# Altium schematic symbol library GL3532.SchLib: 9 symbols
Pins are listed as number, name and electrical type; pins without a type are passive.

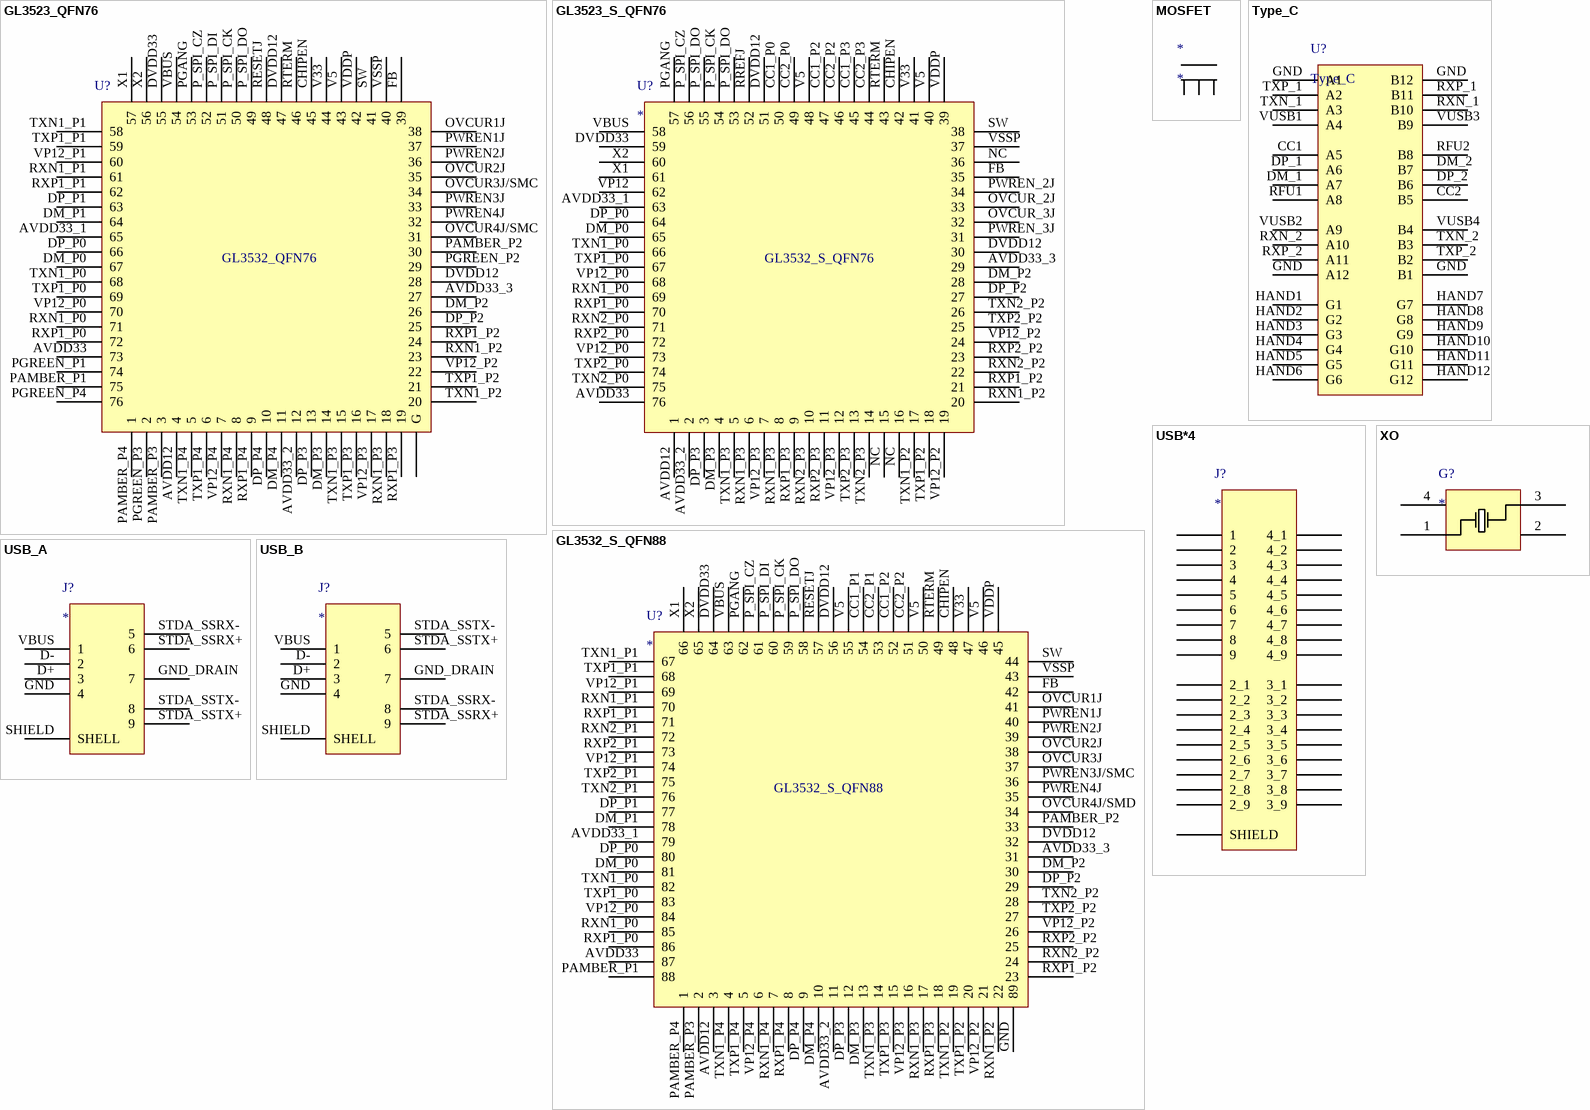
[diagram p0: symbols GL3523_QFN76 to XO]

## GL3523_QFN76
designator U?
USB Type-C™ Integrated USB 3.1 Gen 1 Hub Controller
pins: ?1 G, AVDD12 4, AVDD33 73, AVDD33_1 65, AVDD33_2 12, AVDD33_3 27, CHIPEN 45, DM_P0 67, DM_P1 64, DM_P2 26, DM_P3 14, DM_P4 11, DP_P0 66, DP_P1 63, DP_P2 25, DP_P3 13, DP_P4 10, DVDD12 28, DVDD12 47, DVDD33 55, FB 39, OVCUR1J 38, OVCUR2J 35, OVCUR3J/SMC 34, OVCUR4J/SMC 31, P_SPI_CK 50, P_SPI_CZ 52, P_SPI_DI 51, P_SPI_DO 49, PAMBER_P1 75, PAMBER_P2 30, PAMBER_P3 3, PAMBER_P4 1, PGANG 53, PGREEN_P1 74, PGREEN_P2 29, PGREEN_P3 2, PGREEN_P4 76, PWREN1J 37, PWREN2J 36, PWREN3J 33, PWREN4J 32, RESETJ 48, RTERM 46, RXN1_P0 71, RXN1_P1 61, RXN1_P2 23, RXN1_P3 18, RXN1_P4 8, RXP1_P0 72, RXP1_P1 62, RXP1_P2 24, RXP1_P3 19, RXP1_P4 9, SW 41, TXN1_P0 68, TXN1_P1 58, TXN1_P2 20, TXN1_P3 15, TXN1_P4 5, TXP1_P0 69, TXP1_P1 59, TXP1_P2 21, TXP1_P3 16, TXP1_P4 6, V5 43, V33 44, VBUS 54, VDDP 42, VP12_P0 70, VP12_P1 60, VP12_P2 22, VP12_P3 17, VP12_P4 7, VSSP 40, X1 57, X2 56
text: GL3532_QFN76

## GL3523_S_QFN76
designator U?
footprint GL3523_QFN76 (QFN, 76-Leads, Body 9.00x9.00mm, Pitch 0.40mm, Thermal Pad 5.75x5.75mm, IPC Medium Density)
pins: AVDD12 1, AVDD33 76, AVDD33_1 63, AVDD33_2 2, AVDD33_3 29, CC1_P0 50, CC1_P2 47, CC1_P3 45, CC2_P0 49, CC2_P2 46, CC2_P3 44, CHIPEN 42, DM_P0 65, DM_P2 28, DM_P3 4, DP_P0 64, DP_P2 27, DP_P3 3, DVDD12 30, DVDD12 51, DVDD33 59, FB 35, NC 15, NC 16, NC 36, OVCUR_2J 33, OVCUR_3J 32, P_SPI_CK 54, P_SPI_CZ 56, P_SPI_DO 53, P_SPI_DO 55, PGANG 57, PWREN_2J 34, PWREN_3J 31, RREFJ 52, RTERM 43, RXN1_P0 69, RXN1_P2 20, RXN1_P3 6, RXN1_P3 8, RXN2_P0 71, RXN2_P2 22, RXN2_P3 10, RXP1_P0 70, RXP1_P2 21, RXP1_P3 9, RXP2_P0 72, RXP2_P2 23, RXP2_P3 11, SW 38, TXN1_P0 66, TXN1_P2 17, TXN1_P3 5, TXN2_P0 75, TXN2_P2 26, TXN2_P3 14, TXP1_P0 67, TXP1_P2 18, TXP2_P0 74, TXP2_P2 25, TXP2_P3 13, V5 40, V5 48, V33 41, VBUS 58, VDDP 39, VP12 62, VP12_P0 68, VP12_P0 73, VP12_P2 19, VP12_P2 24, VP12_P3 7, VP12_P3 12, VSSP 37, X1 61, X2 60
text: GL3532_S_QFN76

## GL3532_S_QFN88
designator U?
GL3532_S_QFN88
footprint GL3532_S_QFN88 (QFN, 88-Leads, Body 10.00x10.00mm, Pitch 0.40mm, Thermal Pad 5.60x5.60mm, IPC Medium Density)
pins: AVDD12 3, AVDD33 87, AVDD33_1 79, AVDD33_2 11, AVDD33_3 31, CC1_P1 54, CC1_P2 52, CC2_P1 53, CC2_P2 51, CHIPEN 48, DM_P0 81, DM_P1 78, DM_P2 30, DM_P3 13, DM_P4 10, DP_P0 80, DP_P1 77, DP_P2 29, DP_P3 12, DP_P4 9, DVDD12 32, DVDD12 56, DVDD33 64, FB 42, GND 89, OVCUR1J 41, OVCUR2J 38, OVCUR3J 37, OVCUR4J/SMD 34, P_SPI_CK 59, P_SPI_CZ 61, P_SPI_DI 60, P_SPI_DO 58, PAMBER_P1 88, PAMBER_P2 33, PAMBER_P3 2, PAMBER_P4 1, PGANG 62, PWREN1J 40, PWREN2J 39, PWREN3J/SMC 36, PWREN4J 35, RESETJ 57, RTERM 49, RXN1_P0 85, RXN1_P1 70, RXN1_P2 22, RXN1_P3 17, RXN1_P4 7, RXN2_P1 72, RXN2_P2 24, RXP1_P0 86, RXP1_P1 71, RXP1_P2 23, RXP1_P3 18, RXP1_P4 8, RXP2_P1 73, RXP2_P2 25, SW 44, TXN1_P0 82, TXN1_P1 67, TXN1_P2 19, TXN1_P3 14, TXN1_P4 4, TXN2_P1 76, TXN2_P2 28, TXP1_P0 83, TXP1_P1 68, TXP1_P2 20, TXP1_P3 15, TXP1_P4 5, TXP2_P1 75, TXP2_P2 27, V5 46, V5 50, V5 55, V33 47, VBUS 63, VDDP 45, VP12_P0 84, VP12_P1 69, VP12_P1 74, VP12_P2 21, VP12_P2 26, VP12_P3 16, VP12_P4 6, VSSP 43, X1 66, X2 65

## MOSFET
designator *

## Type_C
designator U?
pins: CC1 A5, CC2 B5, DM_1 A7, DM_2 B7, DP_1 A6, DP_2 B6, GND A1, GND A12, GND B12, GND B1, HAND1 G1, HAND2 G2, HAND3 G3, HAND4 G4, HAND5 G5, HAND6 G6, HAND7 G7, HAND8 G8, HAND9 G9, HAND10 G10, HAND11 G11, HAND12 G12, RFU1 A8, RFU2 B8, RXN_1 B10, RXN_2 A10, RXP_1 B11, RXP_2 A11, TXN_1 A3, TXN_2 B3, TXP_1 A2, TXP_2 B2, VUSB1 A4, VUSB2 A9, VUSB3 B9, VUSB4 B4

## USB*4
designator J?
pins: ?1 1, ?2 2, ?3 3, ?4 4, ?5 5, ?6 6, ?7 7, ?8 8, ?9 9, ?10 2_1, ?11 2_2, ?12 2_3, ?13 2_4, ?14 2_5, ?15 2_6, ?16 2_7, ?17 2_8, ?18 2_9, ?19 4_1, ?20 4_2, ?21 4_3, ?22 4_4, ?23 4_5, ?24 4_6, ?25 4_7, ?26 4_8, ?27 4_9, ?28 3_1, ?29 3_2, ?30 3_3, ?31 3_4, ?32 3_5, ?33 3_6, ?34 3_7, ?35 3_8, ?36 3_9, ?37 SHIELD

## USB_A
designator J?
USB3.0-A
pins: D+ 3, D- 2, GND 4, GND_DRAIN 7, SHIELD SHELL, STDA_SSRX+ 6, STDA_SSRX- 5, STDA_SSTX+ 9, STDA_SSTX- 8, VBUS 1

## USB_B
designator J?
USB3.0_B
pins: D+ 3, D- 2, GND 4, GND_DRAIN 7, SHIELD SHELL, STDA_SSRX+ 9, STDA_SSRX- 8, STDA_SSTX+ 6, STDA_SSTX- 5, VBUS 1

## XO
designator G?
25M XO
pins: 1, 2, 3, 4